# Altium schematic symbol library PMBT2222A.Schlib: 1 symbol
Pins are listed as number, name and electrical type; pins without a type are passive.

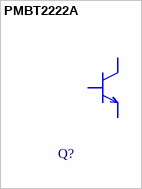
[diagram p0: symbol PMBT2222A]

## PMBT2222A
designator Q?
75V 0.6A NPN
pins: 1 B, 2 E, 3 C